# Altium footprint library micro-siemens.PCBLIB: 57 footprints (part 3 of 5)
Each footprint in its own frame and in the unit in brackets; x right, y up, seen from the top. Pads: shape width x height; smd on the part's side, far side on the other; paste and mask are expansions set on the pad; w line width, h text height; cw(c..) or ccw(c..) is an arc to the next point about the centre after c.
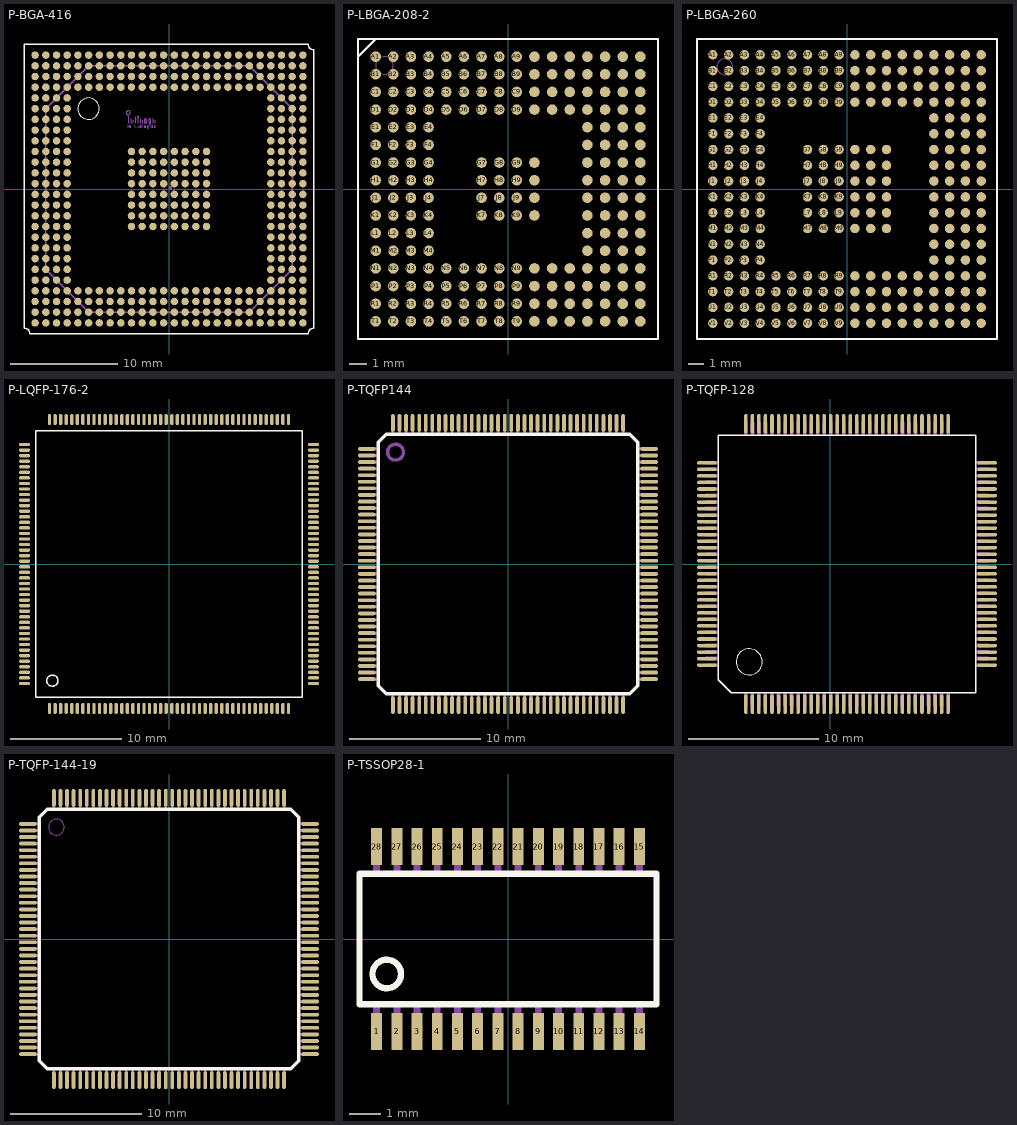
[diagram p2: the footprints below, top view; thin cyan lines are the x and y axes]

## P-BGA-416 [mm]
pads (416):
  rrect100% 0.7x0.7 smd: A1(-12.5,12.5) A2(-11.5,12.5) A3(-10.5,12.5) A4(-9.5,12.5) A5(-8.5,12.5) A6(-7.5,12.5) A7(-6.5,12.5) A8(-5.5,12.5) A9(-4.5,12.5) A10(-3.5,12.5) A11(-2.5,12.5) A12(-1.5,12.5) A13(-0.5,12.5) A14(0.5,12.5) A15(1.5,12.5) A16(2.5,12.5) A17(3.5,12.5) A18(4.5,12.5) A19(5.5,12.5) A20(6.5,12.5) A21(7.5,12.5) A22(8.5,12.5) A23(9.5,12.5) A24(10.5,12.5) A25(11.5,12.5) A26(12.5,12.5) AA1(-12.5,-7.5) AA2(-11.5,-7.5) AA3(-10.5,-7.5) AA4(-9.5,-7.5) AA23(9.5,-7.5) AA24(10.5,-7.5) AA25(11.5,-7.5) AA26(12.5,-7.5) AB1(-12.5,-8.5) AB2(-11.5,-8.5) AB3(-10.5,-8.5) AB4(-9.5,-8.5) AB23(9.5,-8.5) AB24(10.5,-8.5) AB25(11.5,-8.5) AB26(12.5,-8.5) AC1(-12.5,-9.5) AC2(-11.5,-9.5) AC3(-10.5,-9.5) AC4(-9.5,-9.5) AC5(-8.5,-9.5) AC6(-7.5,-9.5) AC7(-6.5,-9.5) AC8(-5.5,-9.5) AC9(-4.5,-9.5) AC10(-3.5,-9.5) AC11(-2.5,-9.5) AC12(-1.5,-9.5) AC13(-0.5,-9.5) AC14(0.5,-9.5) AC15(1.5,-9.5) AC16(2.5,-9.5) AC17(3.5,-9.5) AC18(4.5,-9.5) AC19(5.5,-9.5) AC20(6.5,-9.5) AC21(7.5,-9.5) AC22(8.5,-9.5) AC23(9.5,-9.5) AC24(10.5,-9.5) AC25(11.5,-9.5) AC26(12.5,-9.5) AD1(-12.5,-10.5) AD2(-11.5,-10.5) AD3(-10.5,-10.5) AD4(-9.5,-10.5) AD5(-8.5,-10.5) AD6(-7.5,-10.5) AD7(-6.5,-10.5) AD8(-5.5,-10.5) AD9(-4.5,-10.5) AD10(-3.5,-10.5) AD11(-2.5,-10.5) AD12(-1.5,-10.5) AD13(-0.5,-10.5) AD14(0.5,-10.5) AD15(1.5,-10.5) AD16(2.5,-10.5) AD17(3.5,-10.5) AD18(4.5,-10.5) AD19(5.5,-10.5) AD20(6.5,-10.5) AD21(7.5,-10.5) AD22(8.5,-10.5) AD23(9.5,-10.5) AD24(10.5,-10.5) AD25(11.5,-10.5) AD26(12.5,-10.5) AE1(-12.5,-11.5) AE2(-11.5,-11.5) AE3(-10.5,-11.5) AE4(-9.5,-11.5) AE5(-8.5,-11.5) AE6(-7.5,-11.5) AE7(-6.5,-11.5) AE8(-5.5,-11.5) AE9(-4.5,-11.5) AE10(-3.5,-11.5) AE11(-2.5,-11.5) AE12(-1.5,-11.5) AE13(-0.5,-11.5) AE14(0.5,-11.5) AE15(1.5,-11.5) AE16(2.5,-11.5) AE17(3.5,-11.5) AE18(4.5,-11.5) AE19(5.5,-11.5) AE20(6.5,-11.5) AE21(7.5,-11.5) AE22(8.5,-11.5) AE23(9.5,-11.5) AE24(10.5,-11.5) AE25(11.5,-11.5) AE26(12.5,-11.5) AF1(-12.5,-12.5) AF2(-11.5,-12.5) AF3(-10.5,-12.5) AF4(-9.5,-12.5) AF5(-8.5,-12.5) AF6(-7.5,-12.5) AF7(-6.5,-12.5) AF8(-5.5,-12.5) AF9(-4.5,-12.5) AF10(-3.5,-12.5) AF11(-2.5,-12.5) AF12(-1.5,-12.5) AF13(-0.5,-12.5) AF14(0.5,-12.5) AF15(1.5,-12.5) AF16(2.5,-12.5) AF17(3.5,-12.5) AF18(4.5,-12.5) AF19(5.5,-12.5) AF20(6.5,-12.5) AF21(7.5,-12.5) AF22(8.5,-12.5) AF23(9.5,-12.5) AF24(10.5,-12.5) AF25(11.5,-12.5) AF26(12.5,-12.5) B1(-12.5,11.5) B2(-11.5,11.5) B3(-10.5,11.5) B4(-9.5,11.5) B5(-8.5,11.5) B6(-7.5,11.5) B7(-6.5,11.5) B8(-5.5,11.5) B9(-4.5,11.5) B10(-3.5,11.5) B11(-2.5,11.5) B12(-1.5,11.5) B13(-0.5,11.5) B14(0.5,11.5) B15(1.5,11.5) B16(2.5,11.5) B17(3.5,11.5) B18(4.5,11.5) B19(5.5,11.5) B20(6.5,11.5) B21(7.5,11.5) B22(8.5,11.5) B23(9.5,11.5) B24(10.5,11.5) B25(11.5,11.5) B26(12.5,11.5) C1(-12.5,10.5) C2(-11.5,10.5) C3(-10.5,10.5) C4(-9.5,10.5) C5(-8.5,10.5) C6(-7.5,10.5) C7(-6.5,10.5) C8(-5.5,10.5) C9(-4.5,10.5) C10(-3.5,10.5) C11(-2.5,10.5) C12(-1.5,10.5) C13(-0.5,10.5) C14(0.5,10.5) C15(1.5,10.5) C16(2.5,10.5) C17(3.5,10.5) C18(4.5,10.5) C19(5.5,10.5) C20(6.5,10.5) C21(7.5,10.5) C22(8.5,10.5) C23(9.5,10.5) C24(10.5,10.5) C25(11.5,10.5) C26(12.5,10.5) D1(-12.5,9.5) D2(-11.5,9.5) D3(-10.5,9.5) D4(-9.5,9.5) D5(-8.5,9.5) D6(-7.5,9.5) D7(-6.5,9.5) D8(-5.5,9.5) D9(-4.5,9.5) D10(-3.5,9.5) D11(-2.5,9.5) D12(-1.5,9.5) D13(-0.5,9.5) D14(0.5,9.5) D15(1.5,9.5) D16(2.5,9.5) D17(3.5,9.5) D18(4.5,9.5) D19(5.5,9.5) D20(6.5,9.5) D21(7.5,9.5) D22(8.5,9.5) D23(9.5,9.5) D24(10.5,9.5) D25(11.5,9.5) D26(12.5,9.5) E1(-12.5,8.5) E2(-11.5,8.5) E3(-10.5,8.5) E4(-9.5,8.5) E23(9.5,8.5) E24(10.5,8.5) E25(11.5,8.5) E26(12.5,8.5) F1(-12.5,7.5) F2(-11.5,7.5) F3(-10.5,7.5) F4(-9.5,7.5) F23(9.5,7.5) F24(10.5,7.5) F25(11.5,7.5) F26(12.5,7.5) G1(-12.5,6.5) G2(-11.5,6.5) G3(-10.5,6.5) G4(-9.5,6.5) G23(9.5,6.5) G24(10.5,6.5) G25(11.5,6.5) G26(12.5,6.5) H1(-12.5,5.5) H2(-11.5,5.5) H3(-10.5,5.5) H4(-9.5,5.5) H23(9.5,5.5) H24(10.5,5.5) H25(11.5,5.5) H26(12.5,5.5) J1(-12.5,4.5) J2(-11.5,4.5) J3(-10.5,4.5) J4(-9.5,4.5) J23(9.5,4.5) J24(10.5,4.5) J25(11.5,4.5) J26(12.5,4.5) K1(-12.5,3.5) K2(-11.5,3.5) K3(-10.5,3.5) K4(-9.5,3.5) K10(-3.5,3.5) K11(-2.5,3.5) K12(-1.5,3.5) K13(-0.5,3.5) K14(0.5,3.5) K15(1.5,3.5) K16(2.5,3.5) K17(3.5,3.5) K23(9.5,3.5) K24(10.5,3.5) K25(11.5,3.5) K26(12.5,3.5) L1(-12.5,2.5) L2(-11.5,2.5) L3(-10.5,2.5) L4(-9.5,2.5) L10(-3.5,2.5) L11(-2.5,2.5) L12(-1.5,2.5) L13(-0.5,2.5) L14(0.5,2.5) L15(1.5,2.5) L16(2.5,2.5) L17(3.5,2.5) L23(9.5,2.5) L24(10.5,2.5) L25(11.5,2.5) L26(12.5,2.5) M1(-12.5,1.5) M2(-11.5,1.5) M3(-10.5,1.5) M4(-9.5,1.5) M10(-3.5,1.5) M11(-2.5,1.5) M12(-1.5,1.5) M13(-0.5,1.5) M14(0.5,1.5) M15(1.5,1.5) M16(2.5,1.5) M17(3.5,1.5) M23(9.5,1.5) M24(10.5,1.5) M25(11.5,1.5) M26(12.5,1.5) N1(-12.5,0.5) N2(-11.5,0.5) N3(-10.5,0.5) N4(-9.5,0.5) N10(-3.5,0.5) N11(-2.5,0.5) N12(-1.5,0.5) N13(-0.5,0.5) N14(0.5,0.5) N15(1.5,0.5) N16(2.5,0.5) N17(3.5,0.5) N23(9.5,0.5) N24(10.5,0.5) N25(11.5,0.5) N26(12.5,0.5) P1(-12.5,-0.5) P2(-11.5,-0.5) P3(-10.5,-0.5) P4(-9.5,-0.5) P10(-3.5,-0.5) P11(-2.5,-0.5) P12(-1.5,-0.5) P13(-0.5,-0.5) P14(0.5,-0.5) P15(1.5,-0.5) P16(2.5,-0.5) P17(3.5,-0.5) P23(9.5,-0.5) P24(10.5,-0.5) P25(11.5,-0.5) P26(12.5,-0.5) R1(-12.5,-1.5) R2(-11.5,-1.5) R3(-10.5,-1.5) R4(-9.5,-1.5) R10(-3.5,-1.5) R11(-2.5,-1.5) R12(-1.5,-1.5) R13(-0.5,-1.5) R14(0.5,-1.5) R15(1.5,-1.5) R16(2.5,-1.5) R17(3.5,-1.5) R23(9.5,-1.5) R24(10.5,-1.5) R25(11.5,-1.5) R26(12.5,-1.5) T1(-12.5,-2.5) T2(-11.5,-2.5) T3(-10.5,-2.5) T4(-9.5,-2.5) T10(-3.5,-2.5) T11(-2.5,-2.5) T12(-1.5,-2.5) T13(-0.5,-2.5) T14(0.5,-2.5) T15(1.5,-2.5) T16(2.5,-2.5) T17(3.5,-2.5) T23(9.5,-2.5) T24(10.5,-2.5) T25(11.5,-2.5) T26(12.5,-2.5) U1(-12.5,-3.5) U2(-11.5,-3.5) U3(-10.5,-3.5) U4(-9.5,-3.5) U10(-3.5,-3.5) U11(-2.5,-3.5) U12(-1.5,-3.5) U13(-0.5,-3.5) U14(0.5,-3.5) U15(1.5,-3.5) U16(2.5,-3.5) U17(3.5,-3.5) U23(9.5,-3.5) U24(10.5,-3.5) U25(11.5,-3.5) U26(12.5,-3.5) V1(-12.5,-4.5) V2(-11.5,-4.5) V3(-10.5,-4.5) V4(-9.5,-4.5) V23(9.5,-4.5) V24(10.5,-4.5) V25(11.5,-4.5) V26(12.5,-4.5) W1(-12.5,-5.5) W2(-11.5,-5.5) W3(-10.5,-5.5) W4(-9.5,-5.5) W23(9.5,-5.5) W24(10.5,-5.5) W25(11.5,-5.5) W26(12.5,-5.5) Y1(-12.5,-6.5) Y2(-11.5,-6.5) Y3(-10.5,-6.5) Y4(-9.5,-6.5) Y23(9.5,-6.5) Y24(10.5,-6.5) Y25(11.5,-6.5) Y26(12.5,-6.5)
Top Overlay:
  circle w0: c-7.5,7.5 r1
  lines w0.127: -13.5,-13 -13.5,13.5 13,13.5 ccw(c13.5,13.5) 13.5,13 13.5,-13 ccw(c13.5,-13.5) 13,-13.5 -13,-13.5 ccw(c-13.5,-13.5) -13.5,-13
Mechanical 16:
  circle w0: c-3.8,7.114 r0.197
  circle w0: c-2.89,6.72 r0.058
  circle w0.012: c-2.646,5.816 r0.07
  circle w0.035: c-2.241,5.816 r0.07
  circle w0.035: c-2.652,5.816 r0.07
  circle w0: c-1.76,5.961 r0.026
  rectangle: -3.846,6.1 -3.748,6.806
  rectangle: -3.614,6.1 -3.521,6.575
  rectangle: -3.423,6.1 -3.33,6.459
  rectangle: -3.232,6.5 -3.023,6.575
  rectangle: -3.185,6.1 -3.093,6.766
  rectangle: -2.936,6.1 -2.844,6.58
  rectangle: -2.531,6.1 -2.438,6.453
  rectangle: -2.333,6.32 -2.05,6.389
  rectangle: -1.551,6.1 -1.459,6.575
  rectangle: -1.36,6.1 -1.267,6.459
  rectangle: -2.722,6.1 -2.629,6.575
  rectangle: -3.852,5.735 -3.817,5.961
  rectangle: -3.863,5.868 -3.788,5.897
  rectangle: -3.707,5.81 -3.556,5.839
  rectangle: -3.22,5.735 -3.185,6.024
  rectangle: -3.122,5.735 -3.087,5.856
  rectangle: -2.971,5.735 -2.936,5.897
  rectangle: -2.872,5.735 -2.838,5.856
  rectangle: -2.461,5.735 -2.426,6.024
  rectangle: -1.777,5.735 -1.743,5.903
  rectangle: -1.627,5.81 -1.476,5.839
  region: 0,0 0.254,0 0.254,0.254 0,0.254
  region: 0,0 0.254,0 0.254,0.254 0,0.254
  region: 0,0 0.254,0 0.254,0.254 0,0.254
  region: 0,0 0.254,0 0.254,0.254 0,0.254
  region: 0,0 0.254,0 0.254,0.254 0,0.254
  region: 0,0 0.254,0 0.254,0.254 0,0.254
  region: 0,0 0.254,0 0.254,0.254 0,0.254
  region: 0,0 0.254,0 0.254,0.254 0,0.254
  region: 0,0 0.254,0 0.254,0.254 0,0.254
  lines w0.035: -3.574,5.787 cw(c-3.656,5.829) -3.597,5.758 cw(c-3.63,5.815) -3.672,5.764 cw(c-3.629,5.814) -3.695,5.81 cw(c-0.192,5.824) -3.695,5.839 cw(c-3.629,5.83) -3.655,5.891 cw(c-3.634,5.839) -3.602,5.885 cw(c-3.642,5.829) -3.574,5.839 -3.574,5.833 ; -2.044,5.725 ccw(c-1.979,5.725) -2.038,5.698 ccw(c-1.989,5.72) -2.021,5.677 ccw(c-1.98,5.729) -1.99,5.663 ccw(c-1.981,5.718) -1.951,5.671 ccw(c-1.981,5.725) -1.922,5.706 ccw(c-2.03,5.742) -1.916,5.74 ccw(c-7.183,5.787) -1.916,5.833 ccw(c-1.961,5.833) -1.934,5.868 ccw(c-2.038,5.733) -1.951,5.88 ccw(c-1.983,5.825) -2.015,5.88 ccw(c-1.982,5.824) -2.038,5.856 ccw(c-1.973,5.819) -2.038,5.781 ccw(c-1.983,5.813) -2.015,5.758 ccw(c-1.982,5.813) -1.963,5.752 ccw(c-1.981,5.809) -1.928,5.781 ccw(c-2.028,5.834) -1.916,5.816 ccw(c-4.9,5.859) -1.916,5.903 ; -1.494,5.787 cw(c-1.576,5.829) -1.517,5.758 cw(c-1.55,5.815) -1.592,5.764 cw(c-1.549,5.814) -1.615,5.81 cw(c1.888,5.824) -1.615,5.839 cw(c-1.549,5.83) -1.575,5.891 cw(c-1.554,5.839) -1.522,5.885 cw(c-1.562,5.829) -1.494,5.839 -1.494,5.833 ; -1.366,5.77 ccw(c-1.293,5.842) -1.343,5.752 ccw(c-1.326,5.782) -1.302,5.758 ccw(c-1.327,5.782) -1.296,5.799 ccw(c-1.347,5.771) -1.32,5.822 cw(c-1.157,6.128) -1.349,5.839 cw(c-1.334,5.861) -1.36,5.862 cw(c-1.328,5.86) -1.349,5.885 cw(c-1.331,5.865) -1.326,5.891 cw(c-1.337,5.84) -1.302,5.88
  lines w0.093: -2.096,6.274 cw(c-2.487,6.265) -2.099,6.218 cw(c-2.209,6.227) -2.121,6.161 cw(c-2.178,6.21) -2.171,6.135 cw(c-2.188,6.215) -2.241,6.152 cw(c-2.148,6.25) -2.264,6.181 cw(c-2.092,6.283) -2.287,6.239 cw(c-1.842,6.341) -2.293,6.412 cw(c-1.857,6.343) -2.281,6.465 cw(c-1.987,6.381) -2.264,6.511 cw(c-2.2,6.481) -2.154,6.534 cw(c-2.31,6.357) -2.131,6.511 cw(c-2.194,6.457) -2.119,6.494 cw(c-2.317,6.395) -2.096,6.395 -2.096,6.372 ; -1.905,6.227 ccw(c-1.802,6.239) -1.859,6.152 ccw(c-1.808,6.229) -1.783,6.14 ccw(c-1.807,6.224) -1.725,6.193 ccw(c-1.978,6.293) -1.708,6.262 ccw(c-2.427,6.343) -1.708,6.424 ccw(c-1.895,6.403) -1.737,6.505 ccw(c-1.803,6.462) -1.789,6.54 ccw(c-1.812,6.414) -1.835,6.54 ccw(c-1.822,6.467) -1.893,6.488 ccw(c-1.436,6.355) -1.911,6.395 ccw(c-1.249,6.337) -1.905,6.233
  lines w0.127: -11.5,-7.5 -11.5,7.5 -7.5,11.5 7.5,11.5 11.5,7.5 11.5,-7.5 7.5,-11.5 -7.5,-11.5 -11.5,-7.5

## P-LBGA-208-2 [mm]
pads (208):
  rrect100% 0.6x0.6 smd: A1(-7.5,7.5) A2(-6.5,7.5) A3(-5.5,7.5) A4(-4.5,7.5) A5(-3.5,7.5) A6(-2.5,7.5) A7(-1.5,7.5) A8(-0.5,7.5) A9(0.5,7.5) A10(1.5,7.5) A11(2.5,7.5) A12(3.5,7.5) A13(4.5,7.5) A14(5.5,7.5) A15(6.5,7.5) A16(7.5,7.5) B1(-7.5,6.5) B2(-6.5,6.5) B3(-5.5,6.5) B4(-4.5,6.5) B5(-3.5,6.5) B6(-2.5,6.5) B7(-1.5,6.5) B8(-0.5,6.5) B9(0.5,6.5) B10(1.5,6.5) B11(2.5,6.5) B12(3.5,6.5) B13(4.5,6.5) B14(5.5,6.5) B15(6.5,6.5) B16(7.5,6.5) C1(-7.5,5.5) C2(-6.5,5.5) C3(-5.5,5.5) C4(-4.5,5.5) C5(-3.5,5.5) C6(-2.5,5.5) C7(-1.5,5.5) C8(-0.5,5.5) C9(0.5,5.5) C10(1.5,5.5) C11(2.5,5.5) C12(3.5,5.5) C13(4.5,5.5) C14(5.5,5.5) C15(6.5,5.5) C16(7.5,5.5) D1(-7.5,4.5) D2(-6.5,4.5) D3(-5.5,4.5) D4(-4.5,4.5) D5(-3.5,4.5) D6(-2.5,4.5) D7(-1.5,4.5) D8(-0.5,4.5) D9(0.5,4.5) D10(1.5,4.5) D11(2.5,4.5) D12(3.5,4.5) D13(4.5,4.5) D14(5.5,4.5) D15(6.5,4.5) D16(7.5,4.5) E1(-7.5,3.5) E2(-6.5,3.5) E3(-5.5,3.5) E4(-4.5,3.5) E13(4.5,3.5) E14(5.5,3.5) E15(6.5,3.5) E16(7.5,3.5) F1(-7.5,2.5) F2(-6.5,2.5) F3(-5.5,2.5) F4(-4.5,2.5) F13(4.5,2.5) F14(5.5,2.5) F15(6.5,2.5) F16(7.5,2.5) G1(-7.5,1.5) G2(-6.5,1.5) G3(-5.5,1.5) G4(-4.5,1.5) G7(-1.5,1.5) G8(-0.5,1.5) G9(0.5,1.5) G10(1.5,1.5) G13(4.5,1.5) G14(5.5,1.5) G15(6.5,1.5) G16(7.5,1.5) H1(-7.5,0.5) H2(-6.5,0.5) H3(-5.5,0.5) H4(-4.5,0.5) H7(-1.5,0.5) H8(-0.5,0.5) H9(0.5,0.5) H10(1.5,0.5) H13(4.5,0.5) H14(5.5,0.5) H15(6.5,0.5) H16(7.5,0.5) J1(-7.5,-0.5) J2(-6.5,-0.5) J3(-5.5,-0.5) J4(-4.5,-0.5) J7(-1.5,-0.5) J8(-0.5,-0.5) J9(0.5,-0.5) J10(1.5,-0.5) J13(4.5,-0.5) J14(5.5,-0.5) J15(6.5,-0.5) J16(7.5,-0.5) K1(-7.5,-1.5) K2(-6.5,-1.5) K3(-5.5,-1.5) K4(-4.5,-1.5) K7(-1.5,-1.5) K8(-0.5,-1.5) K9(0.5,-1.5) K10(1.5,-1.5) K13(4.5,-1.5) K14(5.5,-1.5) K15(6.5,-1.5) K16(7.5,-1.5) L1(-7.5,-2.5) L2(-6.5,-2.5) L3(-5.5,-2.5) L4(-4.5,-2.5) L13(4.5,-2.5) L14(5.5,-2.5) L15(6.5,-2.5) L16(7.5,-2.5) M1(-7.5,-3.5) M2(-6.5,-3.5) M3(-5.5,-3.5) M4(-4.5,-3.5) M13(4.5,-3.5) M14(5.5,-3.5) M15(6.5,-3.5) M16(7.5,-3.5) N1(-7.5,-4.5) N2(-6.5,-4.5) N3(-5.5,-4.5) N4(-4.5,-4.5) N5(-3.5,-4.5) N6(-2.5,-4.5) N7(-1.5,-4.5) N8(-0.5,-4.5) N9(0.5,-4.5) N10(1.5,-4.5) N11(2.5,-4.5) N12(3.5,-4.5) N13(4.5,-4.5) N14(5.5,-4.5) N15(6.5,-4.5) N16(7.5,-4.5) P1(-7.5,-5.5) P2(-6.5,-5.5) P3(-5.5,-5.5) P4(-4.5,-5.5) P5(-3.5,-5.5) P6(-2.5,-5.5) P7(-1.5,-5.5) P8(-0.5,-5.5) P9(0.5,-5.5) P10(1.5,-5.5) P11(2.5,-5.5) P12(3.5,-5.5) P13(4.5,-5.5) P14(5.5,-5.5) P15(6.5,-5.5) P16(7.5,-5.5) R1(-7.5,-6.5) R2(-6.5,-6.5) R3(-5.5,-6.5) R4(-4.5,-6.5) R5(-3.5,-6.5) R6(-2.5,-6.5) R7(-1.5,-6.5) R8(-0.5,-6.5) R9(0.5,-6.5) R10(1.5,-6.5) R11(2.5,-6.5) R12(3.5,-6.5) R13(4.5,-6.5) R14(5.5,-6.5) R15(6.5,-6.5) R16(7.5,-6.5) T1(-7.5,-7.5) T2(-6.5,-7.5) T3(-5.5,-7.5) T4(-4.5,-7.5) T5(-3.5,-7.5) T6(-2.5,-7.5) T7(-1.5,-7.5) T8(-0.5,-7.5) T9(0.5,-7.5) T10(1.5,-7.5) T11(2.5,-7.5) T12(3.5,-7.5) T13(4.5,-7.5) T14(5.5,-7.5) T15(6.5,-7.5) T16(7.5,-7.5)
Top Overlay:
  lines w0.127: -8.5,7.5 -8.5,8.5 -7.5,8.5 ; -8.5,7.5 -8.5,-8.5 8.5,-8.5 8.5,8.5 -7.5,8.5 ; -8.5,7.5 -7.5,8.5
Mechanical 16:
  circle w0: c-7,7 r0.5

## P-LBGA-260 [mm]
pads (260):
  rrect100% 0.6x0.6 smd: A1(-8.5,8.5) A2(-7.5,8.5) A3(-6.5,8.5) A4(-5.5,8.5) A5(-4.5,8.5) A6(-3.5,8.5) A7(-2.5,8.5) A8(-1.5,8.5) A9(-0.5,8.5) A10(0.5,8.5) A11(1.5,8.5) A12(2.5,8.5) A13(3.5,8.5) A14(4.5,8.5) A15(5.5,8.5) A16(6.5,8.5) A17(7.5,8.5) A18(8.5,8.5) B1(-8.5,7.5) B2(-7.5,7.5) B3(-6.5,7.5) B4(-5.5,7.5) B5(-4.5,7.5) B6(-3.5,7.5) B7(-2.5,7.5) B8(-1.5,7.5) B9(-0.5,7.5) B10(0.5,7.5) B11(1.5,7.5) B12(2.5,7.5) B13(3.5,7.5) B14(4.5,7.5) B15(5.5,7.5) B16(6.5,7.5) B17(7.5,7.5) B18(8.5,7.5) C1(-8.5,6.5) C2(-7.5,6.5) C3(-6.5,6.5) C4(-5.5,6.5) C5(-4.5,6.5) C6(-3.5,6.5) C7(-2.5,6.5) C8(-1.5,6.5) C9(-0.5,6.5) C10(0.5,6.5) C11(1.5,6.5) C12(2.5,6.5) C13(3.5,6.5) C14(4.5,6.5) C15(5.5,6.5) C16(6.5,6.5) C17(7.5,6.5) C18(8.5,6.5) D1(-8.5,5.5) D2(-7.5,5.5) D3(-6.5,5.5) D4(-5.5,5.5) D5(-4.5,5.5) D6(-3.5,5.5) D7(-2.5,5.5) D8(-1.5,5.5) D9(-0.5,5.5) D10(0.5,5.5) D11(1.5,5.5) D12(2.5,5.5) D13(3.5,5.5) D14(4.5,5.5) D15(5.5,5.5) D16(6.5,5.5) D17(7.5,5.5) D18(8.5,5.5) E1(-8.5,4.5) E2(-7.5,4.5) E3(-6.5,4.5) E4(-5.5,4.5) E15(5.5,4.5) E16(6.5,4.5) E17(7.5,4.5) E18(8.5,4.5) F1(-8.5,3.5) F2(-7.5,3.5) F3(-6.5,3.5) F4(-5.5,3.5) F15(5.5,3.5) F16(6.5,3.5) F17(7.5,3.5) F18(8.5,3.5) G1(-8.5,2.5) G2(-7.5,2.5) G3(-6.5,2.5) G4(-5.5,2.5) G7(-2.5,2.5) G8(-1.5,2.5) G9(-0.5,2.5) G10(0.5,2.5) G11(1.5,2.5) G12(2.5,2.5) G15(5.5,2.5) G16(6.5,2.5) G17(7.5,2.5) G18(8.5,2.5) H1(-8.5,1.5) H2(-7.5,1.5) H3(-6.5,1.5) H4(-5.5,1.5) H7(-2.5,1.5) H8(-1.5,1.5) H9(-0.5,1.5) H10(0.5,1.5) H11(1.5,1.5) H12(2.5,1.5) H15(5.5,1.5) H16(6.5,1.5) H17(7.5,1.5) H18(8.5,1.5) J1(-8.5,0.5) J2(-7.5,0.5) J3(-6.5,0.5) J4(-5.5,0.5) J7(-2.5,0.5) J8(-1.5,0.5) J9(-0.5,0.5) J10(0.5,0.5) J11(1.5,0.5) J12(2.5,0.5) J15(5.5,0.5) J16(6.5,0.5) J17(7.5,0.5) J18(8.5,0.5) K1(-8.5,-0.5) K2(-7.5,-0.5) K3(-6.5,-0.5) K4(-5.5,-0.5) K7(-2.5,-0.5) K8(-1.5,-0.5) K9(-0.5,-0.5) K10(0.5,-0.5) K11(1.5,-0.5) K12(2.5,-0.5) K15(5.5,-0.5) K16(6.5,-0.5) K17(7.5,-0.5) K18(8.5,-0.5) L1(-8.5,-1.5) L2(-7.5,-1.5) L3(-6.5,-1.5) L4(-5.5,-1.5) L7(-2.5,-1.5) L8(-1.5,-1.5) L9(-0.5,-1.5) L10(0.5,-1.5) L11(1.5,-1.5) L12(2.5,-1.5) L15(5.5,-1.5) L16(6.5,-1.5) L17(7.5,-1.5) L18(8.5,-1.5) M1(-8.5,-2.5) M2(-7.5,-2.5) M3(-6.5,-2.5) M4(-5.5,-2.5) M7(-2.5,-2.5) M8(-1.5,-2.5) M9(-0.5,-2.5) M10(0.5,-2.5) M11(1.5,-2.5) M12(2.5,-2.5) M15(5.5,-2.5) M16(6.5,-2.5) M17(7.5,-2.5) M18(8.5,-2.5) N1(-8.5,-3.5) N2(-7.5,-3.5) N3(-6.5,-3.5) N4(-5.5,-3.5) N15(5.5,-3.5) N16(6.5,-3.5) N17(7.5,-3.5) N18(8.5,-3.5) P1(-8.5,-4.5) P2(-7.5,-4.5) P3(-6.5,-4.5) P4(-5.5,-4.5) P15(5.5,-4.5) P16(6.5,-4.5) P17(7.5,-4.5) P18(8.5,-4.5) R1(-8.5,-5.5) R2(-7.5,-5.5) R3(-6.5,-5.5) R4(-5.5,-5.5) R5(-4.5,-5.5) R6(-3.5,-5.5) R7(-2.5,-5.5) R8(-1.5,-5.5) R9(-0.5,-5.5) R10(0.5,-5.5) R11(1.5,-5.5) R12(2.5,-5.5) R13(3.5,-5.5) R14(4.5,-5.5) R15(5.5,-5.5) R16(6.5,-5.5) R17(7.5,-5.5) R18(8.5,-5.5) T1(-8.5,-6.5) T2(-7.5,-6.5) T3(-6.5,-6.5) T4(-5.5,-6.5) T5(-4.5,-6.5) T6(-3.5,-6.5) T7(-2.5,-6.5) T8(-1.5,-6.5) T9(-0.5,-6.5) T10(0.5,-6.5) T11(1.5,-6.5) T12(2.5,-6.5) T13(3.5,-6.5) T14(4.5,-6.5) T15(5.5,-6.5) T16(6.5,-6.5) T17(7.5,-6.5) T18(8.5,-6.5) U1(-8.5,-7.5) U2(-7.5,-7.5) U3(-6.5,-7.5) U4(-5.5,-7.5) U5(-4.5,-7.5) U6(-3.5,-7.5) U7(-2.5,-7.5) U8(-1.5,-7.5) U9(-0.5,-7.5) U10(0.5,-7.5) U11(1.5,-7.5) U12(2.5,-7.5) U13(3.5,-7.5) U14(4.5,-7.5) U15(5.5,-7.5) U16(6.5,-7.5) U17(7.5,-7.5) U18(8.5,-7.5) V1(-8.5,-8.5) V2(-7.5,-8.5) V3(-6.5,-8.5) V4(-5.5,-8.5) V5(-4.5,-8.5) V6(-3.5,-8.5) V7(-2.5,-8.5) V8(-1.5,-8.5) V9(-0.5,-8.5) V10(0.5,-8.5) V11(1.5,-8.5) V12(2.5,-8.5) V13(3.5,-8.5) V14(4.5,-8.5) V15(5.5,-8.5) V16(6.5,-8.5) V17(7.5,-8.5) V18(8.5,-8.5)
Top Overlay:
  lines w0.127: -9.5,-9.5 9.5,-9.5 9.5,9.5 -9.5,9.5 -9.5,-9.5
Mechanical 16:
  circle w0: c-7.74,7.74 r0.5

## P-LQFP-176-2 [mm]
pads (176):
  rrect100% 0.3x1 smd: 1(-10.75,-13) 2(-10.25,-13) 3(-9.75,-13) 4(-9.25,-13) 5(-8.75,-13) 6(-8.25,-13) 7(-7.75,-13) 8(-7.25,-13) 9(-6.75,-13) 10(-6.25,-13) 11(-5.75,-13) 12(-5.25,-13) 13(-4.75,-13) 14(-4.25,-13) 15(-3.75,-13) 16(-3.25,-13) 17(-2.75,-13) 18(-2.25,-13) 19(-1.75,-13) 20(-1.25,-13) 21(-0.75,-13) 22(-0.25,-13) 23(0.25,-13) 24(0.75,-13) 25(1.25,-13) 26(1.75,-13) 27(2.25,-13) 28(2.75,-13) 29(3.25,-13) 30(3.75,-13) 31(4.25,-13) 32(4.75,-13) 33(5.25,-13) 34(5.75,-13) 35(6.25,-13) 36(6.75,-13) 37(7.25,-13) 38(7.75,-13) 39(8.25,-13) 40(8.75,-13) 41(9.25,-13) 42(9.75,-13) 43(10.25,-13) 44(10.75,-13) 89(10.75,13) 90(10.25,13) 91(9.75,13) 92(9.25,13) 93(8.75,13) 94(8.25,13) 95(7.75,13) 96(7.25,13) 97(6.75,13) 98(6.25,13) 99(5.75,13) 100(5.25,13) 101(4.75,13) 102(4.25,13) 103(3.75,13) 104(3.25,13) 105(2.75,13) 106(2.25,13) 107(1.75,13) 108(1.25,13) 109(0.75,13) 110(0.25,13) 111(-0.25,13) 112(-0.75,13) 113(-1.25,13) 114(-1.75,13) 115(-2.25,13) 116(-2.75,13) 117(-3.25,13) 118(-3.75,13) 119(-4.25,13) 120(-4.75,13) 121(-5.25,13) 122(-5.75,13) 123(-6.25,13) 124(-6.75,13) 125(-7.25,13) 126(-7.75,13) 127(-8.25,13) 128(-8.75,13) 129(-9.25,13) 130(-9.75,13) 131(-10.25,13) 132(-10.75,13)
  rrect100% 1x0.3 smd: 45(13,-10.75) 46(13,-10.25) 47(13,-9.75) 48(13,-9.25) 49(13,-8.75) 50(13,-8.25) 51(13,-7.75) 52(13,-7.25) 53(13,-6.75) 54(13,-6.25) 55(13,-5.75) 56(13,-5.25) 57(13,-4.75) 58(13,-4.25) 59(13,-3.75) 60(13,-3.25) 61(13,-2.75) 62(13,-2.25) 63(13,-1.75) 64(13,-1.25) 65(13,-0.75) 66(13,-0.25) 67(13,0.25) 68(13,0.75) 69(13,1.25) 70(13,1.75) 71(13,2.25) 72(13,2.75) 73(13,3.25) 74(13,3.75) 75(13,4.25) 76(13,4.75) 77(13,5.25) 78(13,5.75) 79(13,6.25) 80(13,6.75) 81(13,7.25) 82(13,7.75) 83(13,8.25) 84(13,8.75) 85(13,9.25) 86(13,9.75) 87(13,10.25) 88(13,10.75) 133(-13,10.75) 134(-13,10.25) 135(-13,9.75) 136(-13,9.25) 137(-13,8.75) 138(-13,8.25) 139(-13,7.75) 140(-13,7.25) 141(-13,6.75) 142(-13,6.25) 143(-13,5.75) 144(-13,5.25) 145(-13,4.75) 146(-13,4.25) 147(-13,3.75) 148(-13,3.25) 149(-13,2.75) 150(-13,2.25) 151(-13,1.75) 152(-13,1.25) 153(-13,0.75) 154(-13,0.25) 155(-13,-0.25) 156(-13,-0.75) 157(-13,-1.25) 158(-13,-1.75) 159(-13,-2.25) 160(-13,-2.75) 161(-13,-3.25) 162(-13,-3.75) 163(-13,-4.25) 164(-13,-4.75) 165(-13,-5.25) 166(-13,-5.75) 167(-13,-6.25) 168(-13,-6.75) 169(-13,-7.25) 170(-13,-7.75) 171(-13,-8.25) 172(-13,-8.75) 173(-13,-9.25) 174(-13,-9.75) 175(-13,-10.25) 176(-13,-10.75)
Top Overlay:
  circle w0.127: c-10.5,-10.5 r0.5
  lines w0.127: -12,-12 12,-12 12,12 -12,12 -12,-12

## P-TQFP144 [mm]
pads (144):
  rrect100% 1.35x0.29 smd: 1(-10.725,8.75) 2(-10.725,8.25) 3(-10.725,7.75) 4(-10.725,7.25) 5(-10.725,6.75) 6(-10.725,6.25) 7(-10.725,5.75) 8(-10.725,5.25) 9(-10.725,4.75) 10(-10.725,4.25) 11(-10.725,3.75) 12(-10.725,3.25) 13(-10.725,2.75) 14(-10.725,2.25) 15(-10.725,1.75) 16(-10.725,1.25) 17(-10.725,0.75) 18(-10.725,0.25) 19(-10.725,-0.25) 20(-10.725,-0.75) 21(-10.725,-1.25) 22(-10.725,-1.75) 23(-10.725,-2.25) 24(-10.725,-2.75) 25(-10.725,-3.25) 26(-10.725,-3.75) 27(-10.725,-4.25) 28(-10.725,-4.75) 29(-10.725,-5.25) 30(-10.725,-5.75) 31(-10.725,-6.25) 32(-10.725,-6.75) 33(-10.725,-7.25) 34(-10.725,-7.75) 35(-10.725,-8.25) 36(-10.725,-8.75) 73(10.725,-8.75) 74(10.725,-8.25) 75(10.725,-7.75) 76(10.725,-7.25) 77(10.725,-6.75) 78(10.725,-6.25) 79(10.725,-5.75) 80(10.725,-5.25) 81(10.725,-4.75) 82(10.725,-4.25) 83(10.725,-3.75) 84(10.725,-3.25) 85(10.725,-2.75) 86(10.725,-2.25) 87(10.725,-1.75) 88(10.725,-1.25) 89(10.725,-0.75) 90(10.725,-0.25) 91(10.725,0.25) 92(10.725,0.75) 93(10.725,1.25) 94(10.725,1.75) 95(10.725,2.25) 96(10.725,2.75) 97(10.725,3.25) 98(10.725,3.75) 99(10.725,4.25) 100(10.725,4.75) 101(10.725,5.25) 102(10.725,5.75) 103(10.725,6.25) 104(10.725,6.75) 105(10.725,7.25) 106(10.725,7.75) 107(10.725,8.25) 108(10.725,8.75)
  rrect100% 0.29x1.35 smd: 37(-8.75,-10.725) 38(-8.25,-10.725) 39(-7.75,-10.725) 40(-7.25,-10.725) 41(-6.75,-10.725) 42(-6.25,-10.725) 43(-5.75,-10.725) 44(-5.25,-10.725) 45(-4.75,-10.725) 46(-4.25,-10.725) 47(-3.75,-10.725) 48(-3.25,-10.725) 49(-2.75,-10.725) 50(-2.25,-10.725) 51(-1.75,-10.725) 52(-1.25,-10.725) 53(-0.75,-10.725) 54(-0.25,-10.725) 55(0.25,-10.725) 56(0.75,-10.725) 57(1.25,-10.725) 58(1.75,-10.725) 59(2.25,-10.725) 60(2.75,-10.725) 61(3.25,-10.725) 62(3.75,-10.725) 63(4.25,-10.725) 64(4.75,-10.725) 65(5.25,-10.725) 66(5.75,-10.725) 67(6.25,-10.725) 68(6.75,-10.725) 69(7.25,-10.725) 70(7.75,-10.725) 71(8.25,-10.725) 72(8.75,-10.725) 109(8.75,10.725) 110(8.25,10.725) 111(7.75,10.725) 112(7.25,10.725) 113(6.75,10.725) 114(6.25,10.725) 115(5.75,10.725) 116(5.25,10.725) 117(4.75,10.725) 118(4.25,10.725) 119(3.75,10.725) 120(3.25,10.725) 121(2.75,10.725) 122(2.25,10.725) 123(1.75,10.725) 124(1.25,10.725) 125(0.75,10.725) 126(0.25,10.725) 127(-0.25,10.725) 128(-0.75,10.725) 129(-1.25,10.725) 130(-1.75,10.725) 131(-2.25,10.725) 132(-2.75,10.725) 133(-3.25,10.725) 134(-3.75,10.725) 135(-4.25,10.725) 136(-4.75,10.725) 137(-5.25,10.725) 138(-5.75,10.725) 139(-6.25,10.725) 140(-6.75,10.725) 141(-7.25,10.725) 142(-7.75,10.725) 143(-8.25,10.725) 144(-8.75,10.725)
Top Overlay:
  lines w0.254: -9.85,-9.25 -9.85,9.25 -9.25,9.85 9.25,9.85 9.85,9.25 9.85,-9.25 9.25,-9.85 -9.25,-9.85 -9.85,-9.25
Mechanical 16:
  circle w0.254: c-8.55,8.5 r0.602
  rectangle: -11,8.65 -9.95,8.85
  rectangle: -11,8.15 -9.95,8.35
  rectangle: -11,7.65 -9.95,7.85
  rectangle: -11,7.15 -9.95,7.35
  rectangle: -11,6.65 -9.95,6.85
  rectangle: -11,6.15 -9.95,6.35
  rectangle: -11,5.65 -9.95,5.85
  rectangle: -11,5.15 -9.95,5.35
  rectangle: -11,4.65 -9.95,4.85
  rectangle: -11,4.15 -9.95,4.35
  rectangle: -11,3.65 -9.95,3.85
  rectangle: -11,3.15 -9.95,3.35
  rectangle: -11,2.65 -9.95,2.85
  rectangle: -11,2.15 -9.95,2.35
  rectangle: -11,1.65 -9.95,1.85
  rectangle: -11,1.15 -9.95,1.35
  rectangle: -11,0.65 -9.95,0.85
  rectangle: -11,0.15 -9.95,0.35
  rectangle: -11,-0.35 -9.95,-0.15
  rectangle: -11,-0.85 -9.95,-0.65
  rectangle: -11,-1.35 -9.95,-1.15
  rectangle: -11,-1.85 -9.95,-1.65
  rectangle: -11,-2.35 -9.95,-2.15
  rectangle: -11,-2.85 -9.95,-2.65
  rectangle: -11,-3.35 -9.95,-3.15
  rectangle: -11,-3.85 -9.95,-3.65
  rectangle: -11,-4.35 -9.95,-4.15
  rectangle: -11,-4.85 -9.95,-4.65
  rectangle: -11,-5.35 -9.95,-5.15
  rectangle: -11,-5.85 -9.95,-5.65
  rectangle: -11,-6.35 -9.95,-6.15
  rectangle: -11,-6.85 -9.95,-6.65
  rectangle: -11,-7.35 -9.95,-7.15
  rectangle: -11,-7.85 -9.95,-7.65
  rectangle: -11,-8.35 -9.95,-8.15
  rectangle: -11,-8.85 -9.95,-8.65
  rectangle: 9.95,-8.85 11,-8.65
  rectangle: 9.95,-8.35 11,-8.15
  rectangle: 9.95,-7.85 11,-7.65
  rectangle: 9.95,-7.35 11,-7.15
  rectangle: 9.95,-6.85 11,-6.65
  rectangle: 9.95,-6.35 11,-6.15
  rectangle: 9.95,-5.85 11,-5.65
  rectangle: 9.95,-5.35 11,-5.15
  rectangle: 9.95,-4.85 11,-4.65
  rectangle: 9.95,-4.35 11,-4.15
  rectangle: 9.95,-3.85 11,-3.65
  rectangle: 9.95,-3.35 11,-3.15
  rectangle: 9.95,-2.85 11,-2.65
  rectangle: 9.95,-2.35 11,-2.15
  rectangle: 9.95,-1.85 11,-1.65
  rectangle: 9.95,-1.35 11,-1.15
  rectangle: 9.95,-0.85 11,-0.65
  rectangle: 9.95,-0.35 11,-0.15
  rectangle: 9.95,0.15 11,0.35
  rectangle: 9.95,0.65 11,0.85
  rectangle: 9.95,1.15 11,1.35
  rectangle: 9.95,1.65 11,1.85
  rectangle: 9.95,2.15 11,2.35
  rectangle: 9.95,2.65 11,2.85
  rectangle: 9.95,3.15 11,3.35
  rectangle: 9.95,3.65 11,3.85
  rectangle: 9.95,4.15 11,4.35
  rectangle: 9.95,4.65 11,4.85
  rectangle: 9.95,5.15 11,5.35
  rectangle: 9.95,5.65 11,5.85
  rectangle: 9.95,6.15 11,6.35
  rectangle: 9.95,6.65 11,6.85
  rectangle: 9.95,7.15 11,7.35
  rectangle: 9.95,7.65 11,7.85
  rectangle: 9.95,8.15 11,8.35
  rectangle: 9.95,8.65 11,8.85
  region: -8.65,-11 -8.65,-9.95 -8.85,-9.95 -8.85,-11
  region: -8.15,-11 -8.15,-9.95 -8.35,-9.95 -8.35,-11
  region: -7.65,-11 -7.65,-9.95 -7.85,-9.95 -7.85,-11
  region: -7.15,-11 -7.15,-9.95 -7.35,-9.95 -7.35,-11
  region: -6.65,-11 -6.65,-9.95 -6.85,-9.95 -6.85,-11
  region: -6.15,-11 -6.15,-9.95 -6.35,-9.95 -6.35,-11
  region: -5.65,-11 -5.65,-9.95 -5.85,-9.95 -5.85,-11
  region: -5.15,-11 -5.15,-9.95 -5.35,-9.95 -5.35,-11
  region: -4.65,-11 -4.65,-9.95 -4.85,-9.95 -4.85,-11
  region: -4.15,-11 -4.15,-9.95 -4.35,-9.95 -4.35,-11
  region: -3.65,-11 -3.65,-9.95 -3.85,-9.95 -3.85,-11
  region: -3.15,-11 -3.15,-9.95 -3.35,-9.95 -3.35,-11
  region: -2.65,-11 -2.65,-9.95 -2.85,-9.95 -2.85,-11
  region: -2.15,-11 -2.15,-9.95 -2.35,-9.95 -2.35,-11
  region: -1.65,-11 -1.65,-9.95 -1.85,-9.95 -1.85,-11
  region: -1.15,-11 -1.15,-9.95 -1.35,-9.95 -1.35,-11
  region: -0.65,-11 -0.65,-9.95 -0.85,-9.95 -0.85,-11
  region: -0.15,-11 -0.15,-9.95 -0.35,-9.95 -0.35,-11
  region: 0.35,-11 0.35,-9.95 0.15,-9.95 0.15,-11
  region: 0.85,-11 0.85,-9.95 0.65,-9.95 0.65,-11
  region: 1.35,-11 1.35,-9.95 1.15,-9.95 1.15,-11
  region: 1.85,-11 1.85,-9.95 1.65,-9.95 1.65,-11
  region: 2.35,-11 2.35,-9.95 2.15,-9.95 2.15,-11
  region: 2.85,-11 2.85,-9.95 2.65,-9.95 2.65,-11
  region: 3.35,-11 3.35,-9.95 3.15,-9.95 3.15,-11
  region: 3.85,-11 3.85,-9.95 3.65,-9.95 3.65,-11
  region: 4.35,-11 4.35,-9.95 4.15,-9.95 4.15,-11
  region: 4.85,-11 4.85,-9.95 4.65,-9.95 4.65,-11
  region: 5.35,-11 5.35,-9.95 5.15,-9.95 5.15,-11
  region: 5.85,-11 5.85,-9.95 5.65,-9.95 5.65,-11
  region: 6.35,-11 6.35,-9.95 6.15,-9.95 6.15,-11
  region: 6.85,-11 6.85,-9.95 6.65,-9.95 6.65,-11
  region: 7.35,-11 7.35,-9.95 7.15,-9.95 7.15,-11
  region: 7.85,-11 7.85,-9.95 7.65,-9.95 7.65,-11
  region: 8.35,-11 8.35,-9.95 8.15,-9.95 8.15,-11
  region: 8.85,-11 8.85,-9.95 8.65,-9.95 8.65,-11
  region: 8.65,11 8.65,9.95 8.85,9.95 8.85,11
  region: 8.15,11 8.15,9.95 8.35,9.95 8.35,11
  region: 7.65,11 7.65,9.95 7.85,9.95 7.85,11
  region: 7.15,11 7.15,9.95 7.35,9.95 7.35,11
  region: 6.65,11 6.65,9.95 6.85,9.95 6.85,11
  region: 6.15,11 6.15,9.95 6.35,9.95 6.35,11
  region: 5.65,11 5.65,9.95 5.85,9.95 5.85,11
  region: 5.15,11 5.15,9.95 5.35,9.95 5.35,11
  region: 4.65,11 4.65,9.95 4.85,9.95 4.85,11
  region: 4.15,11 4.15,9.95 4.35,9.95 4.35,11
  region: 3.65,11 3.65,9.95 3.85,9.95 3.85,11
  region: 3.15,11 3.15,9.95 3.35,9.95 3.35,11
  region: 2.65,11 2.65,9.95 2.85,9.95 2.85,11
  region: 2.15,11 2.15,9.95 2.35,9.95 2.35,11
  region: 1.65,11 1.65,9.95 1.85,9.95 1.85,11
  region: 1.15,11 1.15,9.95 1.35,9.95 1.35,11
  region: 0.65,11 0.65,9.95 0.85,9.95 0.85,11
  region: 0.15,11 0.15,9.95 0.35,9.95 0.35,11
  region: -0.35,11 -0.35,9.95 -0.15,9.95 -0.15,11
  region: -0.85,11 -0.85,9.95 -0.65,9.95 -0.65,11
  region: -1.35,11 -1.35,9.95 -1.15,9.95 -1.15,11
  region: -1.85,11 -1.85,9.95 -1.65,9.95 -1.65,11
  region: -2.35,11 -2.35,9.95 -2.15,9.95 -2.15,11
  region: -2.85,11 -2.85,9.95 -2.65,9.95 -2.65,11
  region: -3.35,11 -3.35,9.95 -3.15,9.95 -3.15,11
  region: -3.85,11 -3.85,9.95 -3.65,9.95 -3.65,11
  region: -4.35,11 -4.35,9.95 -4.15,9.95 -4.15,11
  region: -4.85,11 -4.85,9.95 -4.65,9.95 -4.65,11
  region: -5.35,11 -5.35,9.95 -5.15,9.95 -5.15,11
  region: -5.85,11 -5.85,9.95 -5.65,9.95 -5.65,11
  region: -6.35,11 -6.35,9.95 -6.15,9.95 -6.15,11
  region: -6.85,11 -6.85,9.95 -6.65,9.95 -6.65,11
  region: -7.35,11 -7.35,9.95 -7.15,9.95 -7.15,11
  region: -7.85,11 -7.85,9.95 -7.65,9.95 -7.65,11
  region: -8.35,11 -8.35,9.95 -8.15,9.95 -8.15,11
  region: -8.85,11 -8.85,9.95 -8.65,9.95 -8.65,11

## P-TQFP-128 [mm]
pads (128):
  rrect100% 0.27x1.5 smd: 1(-6.48,-10.75) 2(-5.98,-10.75) 3(-5.48,-10.75) 4(-4.98,-10.75) 5(-4.48,-10.75) 6(-3.98,-10.75) 7(-3.48,-10.75) 8(-2.98,-10.75) 9(-2.48,-10.75) 10(-1.98,-10.75) 11(-1.48,-10.75) 12(-0.98,-10.75) 13(-0.48,-10.75) 14(0.02,-10.75) 15(0.52,-10.75) 16(1.02,-10.75) 17(1.52,-10.75) 18(2.02,-10.75) 19(2.52,-10.75) 20(3.02,-10.75) 21(3.52,-10.75) 22(4.02,-10.75) 23(4.52,-10.75) 24(5.02,-10.75) 25(5.52,-10.75) 26(6.02,-10.75) 27(6.52,-10.75) 28(7.02,-10.75) 29(7.52,-10.75) 30(8.02,-10.75) 31(8.52,-10.75) 32(9.02,-10.75) 65(9.02,10.75) 66(8.52,10.75) 67(8.02,10.75) 68(7.52,10.75) 69(7.02,10.75) 70(6.52,10.75) 71(6.02,10.75) 72(5.52,10.75) 73(5.02,10.75) 74(4.52,10.75) 75(4.02,10.75) 76(3.52,10.75) 77(3.02,10.75) 78(2.52,10.75) 79(2.02,10.75) 80(1.52,10.75) 81(1.02,10.75) 82(0.52,10.75) 83(0.02,10.75) 84(-0.48,10.75) 85(-0.98,10.75) 86(-1.48,10.75) 87(-1.98,10.75) 88(-2.48,10.75) 89(-2.98,10.75) 90(-3.48,10.75) 91(-3.98,10.75) 92(-4.48,10.75) 93(-4.98,10.75) 94(-5.48,10.75) 95(-5.98,10.75) 96(-6.48,10.75)
  rrect100% 1.5x0.27 smd: 33(12.02,-7.75) 34(12.02,-7.25) 35(12.02,-6.75) 36(12.02,-6.25) 37(12.02,-5.75) 38(12.02,-5.25) 39(12.02,-4.75) 40(12.02,-4.25) 41(12.02,-3.75) 42(12.02,-3.25) 43(12.02,-2.75) 44(12.02,-2.25) 45(12.02,-1.75) 46(12.02,-1.25) 47(12.02,-0.75) 48(12.02,-0.25) 49(12.02,0.25) 50(12.02,0.75) 51(12.02,1.25) 52(12.02,1.75) 53(12.02,2.25) 54(12.02,2.75) 55(12.02,3.25) 56(12.02,3.75) 57(12.02,4.25) 58(12.02,4.75) 59(12.02,5.25) 60(12.02,5.75) 61(12.02,6.25) 62(12.02,6.75) 63(12.02,7.25) 64(12.02,7.75) 97(-9.48,7.75) 98(-9.48,7.25) 99(-9.48,6.75) 100(-9.48,6.25) 101(-9.48,5.75) 102(-9.48,5.25) 103(-9.48,4.75) 104(-9.48,4.25) 105(-9.48,3.75) 106(-9.48,3.25) 107(-9.48,2.75) 108(-9.48,2.25) 109(-9.48,1.75) 110(-9.48,1.25) 111(-9.48,0.75) 112(-9.48,0.25) 113(-9.48,-0.25) 114(-9.48,-0.75) 115(-9.48,-1.25) 116(-9.48,-1.75) 117(-9.48,-2.25) 118(-9.48,-2.75) 119(-9.48,-3.25) 120(-9.48,-3.75) 121(-9.48,-4.25) 122(-9.48,-4.75) 123(-9.48,-5.25) 124(-9.48,-5.75) 125(-9.48,-6.25) 126(-9.48,-6.75) 127(-9.48,-7.25) 128(-9.48,-7.75)
Top Overlay:
  circle w0: c-6.23,-7.5 r1
  lines w0.127: -8.603,-8.873 -7.603,-9.873 11.143,-9.873 11.143,9.873 -8.603,9.873 -8.603,-8.873
Mechanical 16:
  rectangle: -6.615,9.868 -6.34,10.873
  rectangle: -6.115,9.868 -5.84,10.873
  rectangle: -5.615,9.868 -5.34,10.873
  rectangle: -5.115,9.868 -4.84,10.873
  rectangle: -4.615,9.868 -4.34,10.873
  rectangle: -4.115,9.868 -3.84,10.873
  rectangle: -3.615,9.868 -3.34,10.873
  rectangle: -3.115,9.868 -2.84,10.873
  rectangle: -2.615,9.868 -2.34,10.873
  rectangle: -2.115,9.868 -1.84,10.873
  rectangle: -1.615,9.868 -1.34,10.873
  rectangle: -1.115,9.868 -0.84,10.873
  rectangle: -0.615,9.868 -0.34,10.873
  rectangle: -0.115,9.868 0.16,10.873
  rectangle: 0.385,9.868 0.66,10.873
  rectangle: 0.885,9.868 1.16,10.873
  rectangle: 1.385,9.868 1.66,10.873
  rectangle: 1.885,9.868 2.16,10.873
  rectangle: 2.385,9.868 2.66,10.873
  rectangle: 2.885,9.868 3.16,10.873
  rectangle: 3.385,9.868 3.66,10.873
  rectangle: 3.885,9.868 4.16,10.873
  rectangle: 4.385,9.868 4.66,10.873
  rectangle: 4.885,9.868 5.16,10.873
  rectangle: 5.385,9.868 5.66,10.873
  rectangle: 5.885,9.868 6.16,10.873
  rectangle: 6.385,9.868 6.66,10.873
  rectangle: 6.885,9.868 7.16,10.873
  rectangle: 7.385,9.868 7.66,10.873
  rectangle: 7.885,9.868 8.16,10.873
  rectangle: 8.385,9.868 8.66,10.873
  rectangle: 8.885,9.868 9.16,10.873
  rectangle: 11.143,7.615 12.148,7.89
  rectangle: 11.143,7.115 12.148,7.39
  rectangle: 11.143,6.615 12.148,6.89
  rectangle: 11.143,6.115 12.148,6.39
  rectangle: 11.143,5.615 12.148,5.89
  rectangle: 11.143,5.115 12.148,5.39
  rectangle: 11.143,4.615 12.148,4.89
  rectangle: 11.143,4.115 12.148,4.39
  rectangle: 11.143,3.615 12.148,3.89
  rectangle: 11.143,3.115 12.148,3.39
  rectangle: 11.143,2.615 12.148,2.89
  rectangle: 11.143,2.115 12.148,2.39
  rectangle: 11.143,1.615 12.148,1.89
  rectangle: 11.143,1.115 12.148,1.39
  rectangle: 11.143,0.615 12.148,0.89
  rectangle: 11.143,0.115 12.148,0.39
  rectangle: 11.143,-0.385 12.148,-0.11
  rectangle: 11.143,-0.885 12.148,-0.61
  rectangle: 11.143,-1.385 12.148,-1.11
  rectangle: 11.143,-1.885 12.148,-1.61
  rectangle: 11.143,-2.385 12.148,-2.11
  rectangle: 11.143,-2.885 12.148,-2.61
  rectangle: 11.143,-3.385 12.148,-3.11
  rectangle: 11.143,-3.885 12.148,-3.61
  rectangle: 11.143,-4.385 12.148,-4.11
  rectangle: 11.143,-4.885 12.148,-4.61
  rectangle: 11.143,-5.385 12.148,-5.11
  rectangle: 11.143,-5.885 12.148,-5.61
  rectangle: 11.143,-6.385 12.148,-6.11
  rectangle: 11.143,-6.885 12.148,-6.61
  rectangle: 11.143,-7.385 12.148,-7.11
  rectangle: 11.143,-7.885 12.148,-7.61
  rectangle: -9.603,7.615 -8.598,7.89
  rectangle: -9.603,7.115 -8.598,7.39
  rectangle: -9.603,6.615 -8.598,6.89
  rectangle: -9.603,6.115 -8.598,6.39
  rectangle: -9.603,5.615 -8.598,5.89
  rectangle: -9.603,5.115 -8.598,5.39
  rectangle: -9.603,4.615 -8.598,4.89
  rectangle: -9.603,4.115 -8.598,4.39
  rectangle: -9.603,3.615 -8.598,3.89
  rectangle: -9.603,3.115 -8.598,3.39
  rectangle: -9.603,2.615 -8.598,2.89
  rectangle: -9.603,2.115 -8.598,2.39
  rectangle: -9.603,1.615 -8.598,1.89
  rectangle: -9.603,1.115 -8.598,1.39
  rectangle: -9.603,0.615 -8.598,0.89
  rectangle: -9.603,0.115 -8.598,0.39
  rectangle: -9.603,-0.385 -8.598,-0.11
  rectangle: -9.603,-0.885 -8.598,-0.61
  rectangle: -9.603,-1.385 -8.598,-1.11
  rectangle: -9.603,-1.885 -8.598,-1.61
  rectangle: -9.603,-2.385 -8.598,-2.11
  rectangle: -9.603,-2.885 -8.598,-2.61
  rectangle: -9.603,-3.385 -8.598,-3.11
  rectangle: -9.603,-3.885 -8.598,-3.61
  rectangle: -9.603,-4.385 -8.598,-4.11
  rectangle: -9.603,-4.885 -8.598,-4.61
  rectangle: -9.603,-5.385 -8.598,-5.11
  rectangle: -9.603,-5.885 -8.598,-5.61
  rectangle: -9.603,-6.385 -8.598,-6.11
  rectangle: -9.603,-6.885 -8.598,-6.61
  rectangle: -9.603,-7.385 -8.598,-7.11
  rectangle: -9.603,-7.885 -8.598,-7.61
  rectangle: -6.62,-10.873 -6.345,-9.868
  rectangle: -6.12,-10.873 -5.845,-9.868
  rectangle: -5.62,-10.873 -5.345,-9.868
  rectangle: -5.12,-10.873 -4.845,-9.868
  rectangle: -4.62,-10.873 -4.345,-9.868
  rectangle: -4.12,-10.873 -3.845,-9.868
  rectangle: -3.62,-10.873 -3.345,-9.868
  rectangle: -3.12,-10.873 -2.845,-9.868
  rectangle: -2.62,-10.873 -2.345,-9.868
  rectangle: -2.12,-10.873 -1.845,-9.868
  rectangle: -1.62,-10.873 -1.345,-9.868
  rectangle: -1.12,-10.873 -0.845,-9.868
  rectangle: -0.62,-10.873 -0.345,-9.868
  rectangle: -0.12,-10.873 0.155,-9.868
  rectangle: 0.38,-10.873 0.655,-9.868
  rectangle: 0.88,-10.873 1.155,-9.868
  rectangle: 1.38,-10.873 1.655,-9.868
  rectangle: 1.88,-10.873 2.155,-9.868
  rectangle: 2.38,-10.873 2.655,-9.868
  rectangle: 2.88,-10.873 3.155,-9.868
  rectangle: 3.38,-10.873 3.655,-9.868
  rectangle: 3.88,-10.873 4.155,-9.868
  rectangle: 4.38,-10.873 4.655,-9.868
  rectangle: 4.88,-10.873 5.155,-9.868
  rectangle: 5.38,-10.873 5.655,-9.868
  rectangle: 5.88,-10.873 6.155,-9.868
  rectangle: 6.38,-10.873 6.655,-9.868
  rectangle: 6.88,-10.873 7.155,-9.868
  rectangle: 7.38,-10.873 7.655,-9.868
  rectangle: 7.88,-10.873 8.155,-9.868
  rectangle: 8.38,-10.873 8.655,-9.868
  rectangle: 8.88,-10.873 9.155,-9.868

## P-TQFP-144-19 [mm]
pads (144):
  rrect100% 1.35x0.29 smd: 1(-10.725,8.75) 2(-10.725,8.25) 3(-10.725,7.75) 4(-10.725,7.25) 5(-10.725,6.75) 6(-10.725,6.25) 7(-10.725,5.75) 8(-10.725,5.25) 9(-10.725,4.75) 10(-10.725,4.25) 11(-10.725,3.75) 12(-10.725,3.25) 13(-10.725,2.75) 14(-10.725,2.25) 15(-10.725,1.75) 16(-10.725,1.25) 17(-10.725,0.75) 18(-10.725,0.25) 19(-10.725,-0.25) 20(-10.725,-0.75) 21(-10.725,-1.25) 22(-10.725,-1.75) 23(-10.725,-2.25) 24(-10.725,-2.75) 25(-10.725,-3.25) 26(-10.725,-3.75) 27(-10.725,-4.25) 28(-10.725,-4.75) 29(-10.725,-5.25) 30(-10.725,-5.75) 31(-10.725,-6.25) 32(-10.725,-6.75) 33(-10.725,-7.25) 34(-10.725,-7.75) 35(-10.725,-8.25) 36(-10.725,-8.75) 73(10.725,-8.75) 74(10.725,-8.25) 75(10.725,-7.75) 76(10.725,-7.25) 77(10.725,-6.75) 78(10.725,-6.25) 79(10.725,-5.75) 80(10.725,-5.25) 81(10.725,-4.75) 82(10.725,-4.25) 83(10.725,-3.75) 84(10.725,-3.25) 85(10.725,-2.75) 86(10.725,-2.25) 87(10.725,-1.75) 88(10.725,-1.25) 89(10.725,-0.75) 90(10.725,-0.25) 91(10.725,0.25) 92(10.725,0.75) 93(10.725,1.25) 94(10.725,1.75) 95(10.725,2.25) 96(10.725,2.75) 97(10.725,3.25) 98(10.725,3.75) 99(10.725,4.25) 100(10.725,4.75) 101(10.725,5.25) 102(10.725,5.75) 103(10.725,6.25) 104(10.725,6.75) 105(10.725,7.25) 106(10.725,7.75) 107(10.725,8.25) 108(10.725,8.75)
  rrect100% 0.29x1.35 smd: 37(-8.75,-10.725) 38(-8.25,-10.725) 39(-7.75,-10.725) 40(-7.25,-10.725) 41(-6.75,-10.725) 42(-6.25,-10.725) 43(-5.75,-10.725) 44(-5.25,-10.725) 45(-4.75,-10.725) 46(-4.25,-10.725) 47(-3.75,-10.725) 48(-3.25,-10.725) 49(-2.75,-10.725) 50(-2.25,-10.725) 51(-1.75,-10.725) 52(-1.25,-10.725) 53(-0.75,-10.725) 54(-0.25,-10.725) 55(0.25,-10.725) 56(0.75,-10.725) 57(1.25,-10.725) 58(1.75,-10.725) 59(2.25,-10.725) 60(2.75,-10.725) 61(3.25,-10.725) 62(3.75,-10.725) 63(4.25,-10.725) 64(4.75,-10.725) 65(5.25,-10.725) 66(5.75,-10.725) 67(6.25,-10.725) 68(6.75,-10.725) 69(7.25,-10.725) 70(7.75,-10.725) 71(8.25,-10.725) 72(8.75,-10.725) 109(8.75,10.725) 110(8.25,10.725) 111(7.75,10.725) 112(7.25,10.725) 113(6.75,10.725) 114(6.25,10.725) 115(5.75,10.725) 116(5.25,10.725) 117(4.75,10.725) 118(4.25,10.725) 119(3.75,10.725) 120(3.25,10.725) 121(2.75,10.725) 122(2.25,10.725) 123(1.75,10.725) 124(1.25,10.725) 125(0.75,10.725) 126(0.25,10.725) 127(-0.25,10.725) 128(-0.75,10.725) 129(-1.25,10.725) 130(-1.75,10.725) 131(-2.25,10.725) 132(-2.75,10.725) 133(-3.25,10.725) 134(-3.75,10.725) 135(-4.25,10.725) 136(-4.75,10.725) 137(-5.25,10.725) 138(-5.75,10.725) 139(-6.25,10.725) 140(-6.75,10.725) 141(-7.25,10.725) 142(-7.75,10.725) 143(-8.25,10.725) 144(-8.75,10.725)
Top Overlay:
  lines w0.254: -9.85,-9.25 -9.85,9.25 -9.25,9.85 9.25,9.85 9.85,9.25 9.85,-9.25 9.25,-9.85 -9.25,-9.85 -9.85,-9.25
Mechanical 16:
  circle w0: c-8.55,8.5 r0.602
  rectangle: -11,8.65 -9.95,8.85
  rectangle: -11,8.15 -9.95,8.35
  rectangle: -11,7.65 -9.95,7.85
  rectangle: -11,7.15 -9.95,7.35
  rectangle: -11,6.65 -9.95,6.85
  rectangle: -11,6.15 -9.95,6.35
  rectangle: -11,5.65 -9.95,5.85
  rectangle: -11,5.15 -9.95,5.35
  rectangle: -11,4.65 -9.95,4.85
  rectangle: -11,4.15 -9.95,4.35
  rectangle: -11,3.65 -9.95,3.85
  rectangle: -11,3.15 -9.95,3.35
  rectangle: -11,2.65 -9.95,2.85
  rectangle: -11,2.15 -9.95,2.35
  rectangle: -11,1.65 -9.95,1.85
  rectangle: -11,1.15 -9.95,1.35
  rectangle: -11,0.65 -9.95,0.85
  rectangle: -11,0.15 -9.95,0.35
  rectangle: -11,-0.35 -9.95,-0.15
  rectangle: -11,-0.85 -9.95,-0.65
  rectangle: -11,-1.35 -9.95,-1.15
  rectangle: -11,-1.85 -9.95,-1.65
  rectangle: -11,-2.35 -9.95,-2.15
  rectangle: -11,-2.85 -9.95,-2.65
  rectangle: -11,-3.35 -9.95,-3.15
  rectangle: -11,-3.85 -9.95,-3.65
  rectangle: -11,-4.35 -9.95,-4.15
  rectangle: -11,-4.85 -9.95,-4.65
  rectangle: -11,-5.35 -9.95,-5.15
  rectangle: -11,-5.85 -9.95,-5.65
  rectangle: -11,-6.35 -9.95,-6.15
  rectangle: -11,-6.85 -9.95,-6.65
  rectangle: -11,-7.35 -9.95,-7.15
  rectangle: -11,-7.85 -9.95,-7.65
  rectangle: -11,-8.35 -9.95,-8.15
  rectangle: -11,-8.85 -9.95,-8.65
  region: -8.65,-11 -8.65,-9.95 -8.85,-9.95 -8.85,-11
  region: -8.15,-11 -8.15,-9.95 -8.35,-9.95 -8.35,-11
  region: -7.65,-11 -7.65,-9.95 -7.85,-9.95 -7.85,-11
  region: -7.15,-11 -7.15,-9.95 -7.35,-9.95 -7.35,-11
  region: -6.65,-11 -6.65,-9.95 -6.85,-9.95 -6.85,-11
  region: -6.15,-11 -6.15,-9.95 -6.35,-9.95 -6.35,-11
  region: -5.65,-11 -5.65,-9.95 -5.85,-9.95 -5.85,-11
  region: -5.15,-11 -5.15,-9.95 -5.35,-9.95 -5.35,-11
  region: -4.65,-11 -4.65,-9.95 -4.85,-9.95 -4.85,-11
  region: -4.15,-11 -4.15,-9.95 -4.35,-9.95 -4.35,-11
  region: -3.65,-11 -3.65,-9.95 -3.85,-9.95 -3.85,-11
  region: -3.15,-11 -3.15,-9.95 -3.35,-9.95 -3.35,-11
  region: -2.65,-11 -2.65,-9.95 -2.85,-9.95 -2.85,-11
  region: -2.15,-11 -2.15,-9.95 -2.35,-9.95 -2.35,-11
  region: -1.65,-11 -1.65,-9.95 -1.85,-9.95 -1.85,-11
  region: -1.15,-11 -1.15,-9.95 -1.35,-9.95 -1.35,-11
  region: -0.65,-11 -0.65,-9.95 -0.85,-9.95 -0.85,-11
  region: -0.15,-11 -0.15,-9.95 -0.35,-9.95 -0.35,-11
  region: 0.35,-11 0.35,-9.95 0.15,-9.95 0.15,-11
  region: 0.85,-11 0.85,-9.95 0.65,-9.95 0.65,-11
  region: 1.35,-11 1.35,-9.95 1.15,-9.95 1.15,-11
  region: 1.85,-11 1.85,-9.95 1.65,-9.95 1.65,-11
  region: 2.35,-11 2.35,-9.95 2.15,-9.95 2.15,-11
  region: 2.85,-11 2.85,-9.95 2.65,-9.95 2.65,-11
  region: 3.35,-11 3.35,-9.95 3.15,-9.95 3.15,-11
  region: 3.85,-11 3.85,-9.95 3.65,-9.95 3.65,-11
  region: 4.35,-11 4.35,-9.95 4.15,-9.95 4.15,-11
  region: 4.85,-11 4.85,-9.95 4.65,-9.95 4.65,-11
  region: 5.35,-11 5.35,-9.95 5.15,-9.95 5.15,-11
  region: 5.85,-11 5.85,-9.95 5.65,-9.95 5.65,-11
  region: 6.35,-11 6.35,-9.95 6.15,-9.95 6.15,-11
  region: 6.85,-11 6.85,-9.95 6.65,-9.95 6.65,-11
  region: 7.35,-11 7.35,-9.95 7.15,-9.95 7.15,-11
  region: 7.85,-11 7.85,-9.95 7.65,-9.95 7.65,-11
  region: 8.35,-11 8.35,-9.95 8.15,-9.95 8.15,-11
  region: 8.85,-11 8.85,-9.95 8.65,-9.95 8.65,-11
  region: 11,-8.65 9.95,-8.65 9.95,-8.85 11,-8.85
  region: 11,-8.15 9.95,-8.15 9.95,-8.35 11,-8.35
  region: 11,-7.65 9.95,-7.65 9.95,-7.85 11,-7.85
  region: 11,-7.15 9.95,-7.15 9.95,-7.35 11,-7.35
  region: 11,-6.65 9.95,-6.65 9.95,-6.85 11,-6.85
  region: 11,-6.15 9.95,-6.15 9.95,-6.35 11,-6.35
  region: 11,-5.65 9.95,-5.65 9.95,-5.85 11,-5.85
  region: 11,-5.15 9.95,-5.15 9.95,-5.35 11,-5.35
  region: 11,-4.65 9.95,-4.65 9.95,-4.85 11,-4.85
  region: 11,-4.15 9.95,-4.15 9.95,-4.35 11,-4.35
  region: 11,-3.65 9.95,-3.65 9.95,-3.85 11,-3.85
  region: 11,-3.15 9.95,-3.15 9.95,-3.35 11,-3.35
  region: 11,-2.65 9.95,-2.65 9.95,-2.85 11,-2.85
  region: 11,-2.15 9.95,-2.15 9.95,-2.35 11,-2.35
  region: 11,-1.65 9.95,-1.65 9.95,-1.85 11,-1.85
  region: 11,-1.15 9.95,-1.15 9.95,-1.35 11,-1.35
  region: 11,-0.65 9.95,-0.65 9.95,-0.85 11,-0.85
  region: 11,-0.15 9.95,-0.15 9.95,-0.35 11,-0.35
  region: 11,0.35 9.95,0.35 9.95,0.15 11,0.15
  region: 11,0.85 9.95,0.85 9.95,0.65 11,0.65
  region: 11,1.35 9.95,1.35 9.95,1.15 11,1.15
  region: 11,1.85 9.95,1.85 9.95,1.65 11,1.65
  region: 11,2.35 9.95,2.35 9.95,2.15 11,2.15
  region: 11,2.85 9.95,2.85 9.95,2.65 11,2.65
  region: 11,3.35 9.95,3.35 9.95,3.15 11,3.15
  region: 11,3.85 9.95,3.85 9.95,3.65 11,3.65
  region: 11,4.35 9.95,4.35 9.95,4.15 11,4.15
  region: 11,4.85 9.95,4.85 9.95,4.65 11,4.65
  region: 11,5.35 9.95,5.35 9.95,5.15 11,5.15
  region: 11,5.85 9.95,5.85 9.95,5.65 11,5.65
  region: 11,6.35 9.95,6.35 9.95,6.15 11,6.15
  region: 11,6.85 9.95,6.85 9.95,6.65 11,6.65
  region: 11,7.35 9.95,7.35 9.95,7.15 11,7.15
  region: 11,7.85 9.95,7.85 9.95,7.65 11,7.65
  region: 11,8.35 9.95,8.35 9.95,8.15 11,8.15
  region: 11,8.85 9.95,8.85 9.95,8.65 11,8.65
  region: 8.65,11 8.65,9.95 8.85,9.95 8.85,11
  region: 8.15,11 8.15,9.95 8.35,9.95 8.35,11
  region: 7.65,11 7.65,9.95 7.85,9.95 7.85,11
  region: 7.15,11 7.15,9.95 7.35,9.95 7.35,11
  region: 6.65,11 6.65,9.95 6.85,9.95 6.85,11
  region: 6.15,11 6.15,9.95 6.35,9.95 6.35,11
  region: 5.65,11 5.65,9.95 5.85,9.95 5.85,11
  region: 5.15,11 5.15,9.95 5.35,9.95 5.35,11
  region: 4.65,11 4.65,9.95 4.85,9.95 4.85,11
  region: 4.15,11 4.15,9.95 4.35,9.95 4.35,11
  region: 3.65,11 3.65,9.95 3.85,9.95 3.85,11
  region: 3.15,11 3.15,9.95 3.35,9.95 3.35,11
  region: 2.65,11 2.65,9.95 2.85,9.95 2.85,11
  region: 2.15,11 2.15,9.95 2.35,9.95 2.35,11
  region: 1.65,11 1.65,9.95 1.85,9.95 1.85,11
  region: 1.15,11 1.15,9.95 1.35,9.95 1.35,11
  region: 0.65,11 0.65,9.95 0.85,9.95 0.85,11
  region: 0.15,11 0.15,9.95 0.35,9.95 0.35,11
  region: -0.35,11 -0.35,9.95 -0.15,9.95 -0.15,11
  region: -0.85,11 -0.85,9.95 -0.65,9.95 -0.65,11
  region: -1.35,11 -1.35,9.95 -1.15,9.95 -1.15,11
  region: -1.85,11 -1.85,9.95 -1.65,9.95 -1.65,11
  region: -2.35,11 -2.35,9.95 -2.15,9.95 -2.15,11
  region: -2.85,11 -2.85,9.95 -2.65,9.95 -2.65,11
  region: -3.35,11 -3.35,9.95 -3.15,9.95 -3.15,11
  region: -3.85,11 -3.85,9.95 -3.65,9.95 -3.65,11
  region: -4.35,11 -4.35,9.95 -4.15,9.95 -4.15,11
  region: -4.85,11 -4.85,9.95 -4.65,9.95 -4.65,11
  region: -5.35,11 -5.35,9.95 -5.15,9.95 -5.15,11
  region: -5.85,11 -5.85,9.95 -5.65,9.95 -5.65,11
  region: -6.35,11 -6.35,9.95 -6.15,9.95 -6.15,11
  region: -6.85,11 -6.85,9.95 -6.65,9.95 -6.65,11
  region: -7.35,11 -7.35,9.95 -7.15,9.95 -7.15,11
  region: -7.85,11 -7.85,9.95 -7.65,9.95 -7.65,11
  region: -8.35,11 -8.35,9.95 -8.15,9.95 -8.15,11
  region: -8.85,11 -8.85,9.95 -8.65,9.95 -8.65,11

## P-TSSOP28-1 [mm]
pads (28):
  rect 0.35x1.2 smd: 1(-4.225,-2.975) 2(-3.575,-2.975) 3(-2.925,-2.975) 4(-2.275,-2.975) 5(-1.625,-2.975) 6(-0.975,-2.975) 7(-0.325,-2.975) 8(0.325,-2.975) 9(0.975,-2.975) 10(1.625,-2.975) 11(2.275,-2.975) 12(2.925,-2.975) 13(3.575,-2.975) 14(4.225,-2.975) 15(4.225,2.975) 16(3.575,2.975) 17(2.925,2.975) 18(2.275,2.975) 19(1.625,2.975) 20(0.975,2.975) 21(0.325,2.975) 22(-0.325,2.975) 23(-0.975,2.975) 24(-1.625,2.975) 25(-2.275,2.975) 26(-2.925,2.975) 27(-3.575,2.975) 28(-4.225,2.975)
Top Overlay:
  circle w0.203: c-3.9,-1.125 r0.459
  lines w0.203: -4.775,-2.1 4.775,-2.1 4.775,2.1 -4.775,2.1 -4.775,-2.1
Mechanical 16:
  rectangle: -4.335,-3.2 -4.115,-2.17
  rectangle: -3.685,-3.2 -3.465,-2.17
  rectangle: -3.035,-3.2 -2.815,-2.17
  rectangle: -2.385,-3.2 -2.165,-2.17
  rectangle: -1.735,-3.2 -1.515,-2.17
  rectangle: -1.085,-3.2 -0.865,-2.17
  rectangle: -0.435,-3.2 -0.215,-2.17
  rectangle: 0.215,-3.2 0.435,-2.17
  rectangle: 0.865,-3.2 1.085,-2.17
  rectangle: 1.515,-3.2 1.735,-2.17
  rectangle: 2.165,-3.2 2.385,-2.17
  rectangle: 2.815,-3.2 3.035,-2.17
  rectangle: 3.465,-3.2 3.685,-2.17
  rectangle: 4.115,-3.2 4.335,-2.17
  rectangle: 4.115,2.17 4.335,3.2
  rectangle: 3.465,2.17 3.685,3.2
  rectangle: 2.815,2.17 3.035,3.2
  rectangle: 2.165,2.17 2.385,3.2
  rectangle: 1.515,2.17 1.735,3.2
  rectangle: 0.865,2.17 1.085,3.2
  rectangle: 0.215,2.17 0.435,3.2
  rectangle: -0.435,2.17 -0.215,3.2
  rectangle: -1.085,2.17 -0.865,3.2
  rectangle: -1.735,2.17 -1.515,3.2
  rectangle: -2.385,2.17 -2.165,3.2
  rectangle: -3.035,2.17 -2.815,3.2
  rectangle: -3.685,2.17 -3.465,3.2
  rectangle: -4.335,2.17 -4.115,3.2